# EAGLE library part S6B-ZR-SM4A-TF (library connector)
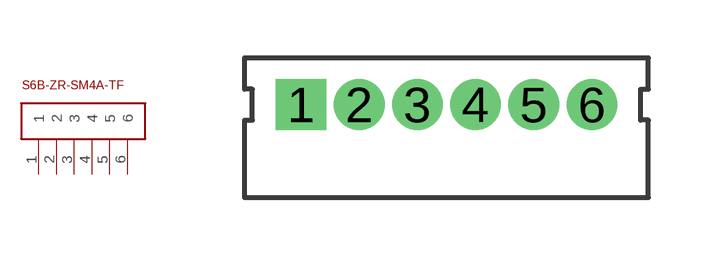
[diagram p0: symbol with the pads of S6B-ZR-SM4A-TF; footprint S6B-ZR-SM4A-TF]

Designator prefix -

## S6B-ZR-SM4A-TF  [S6B-ZR-SM4A-TF]
1  1
2  2
3  3
4  4
5  5
6  6

## Footprint S6B-ZR-SM4A-TF (pad centres in mm)
drill 0.8 square: 1 -3.75,0
drill 0.8 round: 2 -2.25,0; 3 -0.75,0; 4 0.75,0; 5 2.25,0; 6 3.75,0